# EAGLE library part DF11-10-2DSA_S (library con-hirose-df11)
HEADER
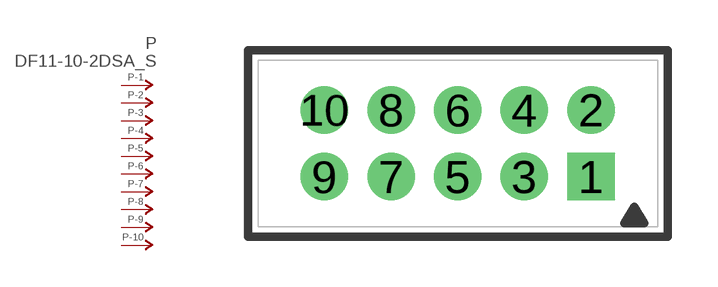
[diagram p16: symbol with the pads of DF11-10DP-2DSA; footprint DF11-10DP-2DSA]

Designator prefix P; gates -1=P-NV -2=P-N -3=P-N -4=P-N -5=P-N -6=P-N -7=P-N -8=P-N -9=P-N -10=P-N

## DF11-10-2DSA_S  [DF11-10DP-2DSA]
1  -1:P  pas
2  -2:P  pas
3  -3:P  pas
4  -4:P  pas
5  -5:P  pas
6  -6:P  pas
7  -7:P  pas
8  -8:P  pas
9  -9:P  pas
10  -10:P  pas

## Footprint DF11-10DP-2DSA (pad centres in mm)
HEADER
drill 0.914 square: 1 4,-1
drill 0.914: 2 4,1; 3 2,-1; 4 2,1; 5 0,-1; 6 0,1; 7 -2,-1; 8 -2,1; 9 -4,-1; 10 -4,1